# Altium footprint library ultrasoonSensor.PcbLib: 1 footprints
Each footprint in its own frame and in the unit in brackets; x right, y up, seen from the top. Pads: shape width x height; smd on the part's side, far side on the other; paste and mask are expansions set on the pad; w line width, h text height; cw(c..) or ccw(c..) is an arc to the next point about the centre after c.
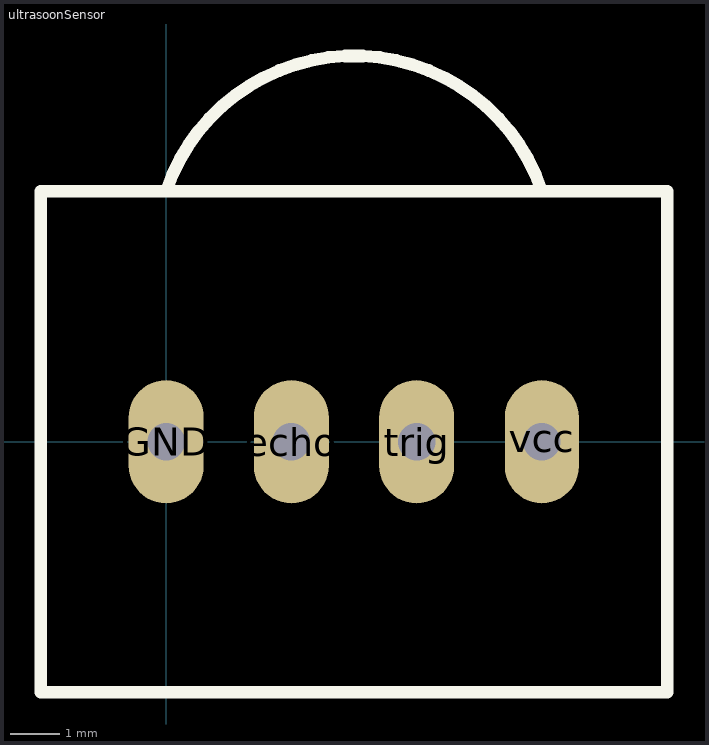
[diagram p0: the footprint, top view; thin cyan lines are the x and y axes]

## ultrasoonSensor [mil]
pads (4):
  oval 60x98.43 hole 30: echo(100,0) GND(0,0) trig(200,0)
  oval 59.06x98.43 hole 30: vcc(300,0)
Top Overlay:
  lines w10: 0,200 cw(c150,150) 300,200 ; -100,-200 -100,0 -100,200 400,200 400,-200 -100,-200